# Altium schematic symbol library SpecificConnectors.SchLib: 2 symbols
Pins are listed as number, name and electrical type; pins without a type are passive.

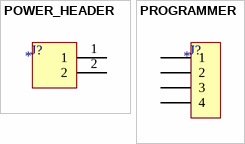
[diagram p0: symbols POWER_HEADER to PROGRAMMER]

## POWER_HEADER
designator J?
2mm hirose power header; Text Field1: H2105-ND & H2083-ND & H2BXG-10112-R8-ND (& -B8-ND); Text Field2: Hirose DF3-2P-2DS & DF3-2S-2C & H2BXG-10112-R8-ND (-B8-ND); Text Field3: H2083 is its mate, H2BXG are connector cables
footprint DF3-2P-2DS
pins: 1, 2

## PROGRAMMER
designator J?
Programming Connector; Text Field1: H2791-ND & H2794-ND; Text Field2: Hirose MQ172X-4SA-CV & MQ172X-4PA; Text Field3: Hirose H2794 is prog. mate - order at same time
footprint HIROSE_MQ172_PGM_CONNECTOR
pins: 1, 2, 3, 4